# Altium footprint library 830064296.PcbLib: 1 footprints
Each footprint in its own frame and in the unit in brackets; x right, y up, seen from the top. Pads: shape width x height; smd on the part's side, far side on the other; paste and mask are expansions set on the pad; w line width, h text height; cw(c..) or ccw(c..) is an arc to the next point about the centre after c.
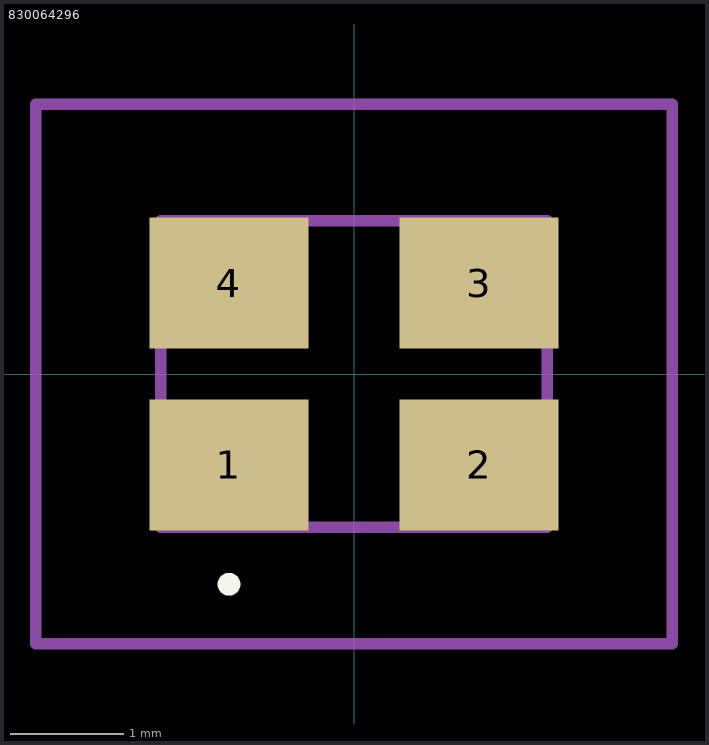
[diagram p0: the footprint, top view; thin cyan lines are the x and y axes]

## 830064296 [mm]
pads (4):
  rect 1.4x1.15 smd: 1(-1.1,-0.8) 2(1.1,-0.8) 3(1.1,0.8) 4(-1.1,0.8)
Top Overlay:
  lines w0.1: -1.1,-1.9 -1.1,-1.9 ; -1.1,-1.9 ccw(c-1.1,-1.85) -1.1,-1.8 ; -1.1,-1.9 cw(c-1.1,-1.85) -1.1,-1.8 ; -1.1,-1.8 -1.1,-1.8
Mechanical 15:
  lines w0.1: -1.7,-1.35 1.7,-1.35 1.7,1.35 -1.7,1.35 -1.7,-1.35
Mechanical 20:
  lines w0.1: -2.8,-2.375 2.8,-2.375 2.8,2.375 -2.8,2.375 -2.8,-2.375